# Altium schematic symbol library pi2.SchLib: 27 symbols
Pins are listed as number, name and electrical type; pins without a type are passive.

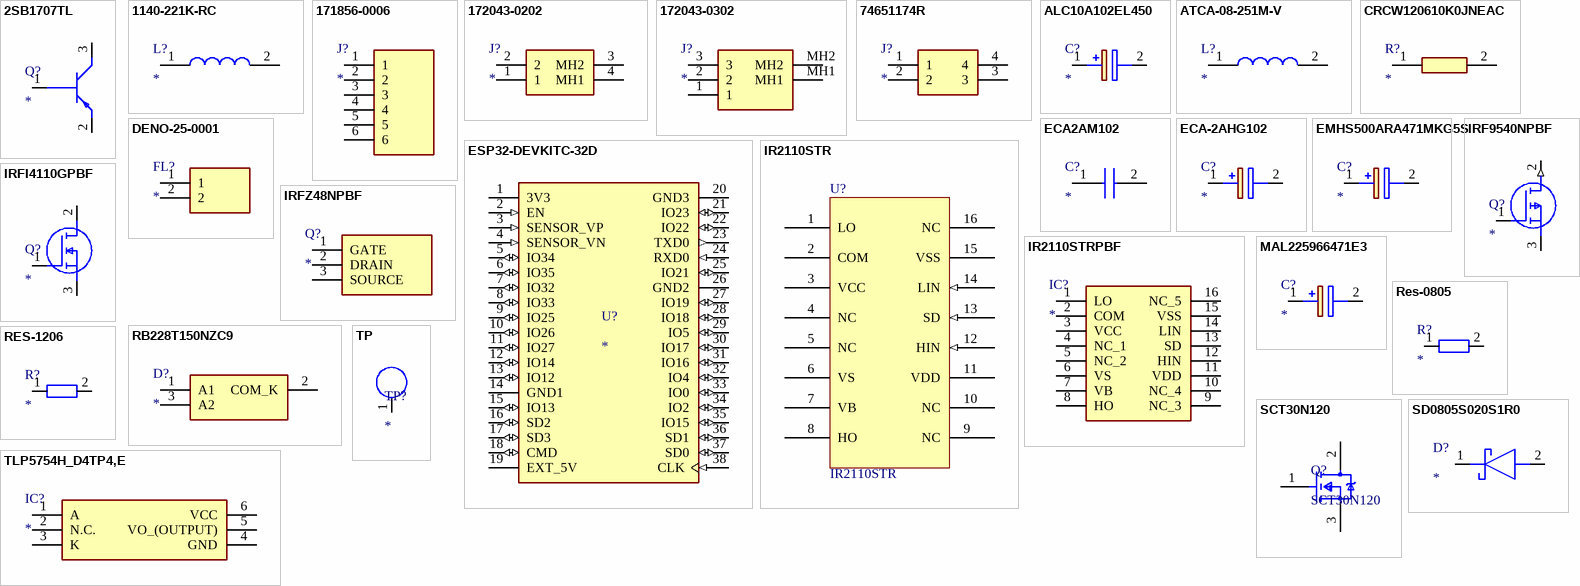
[diagram p0: symbols 2SB1707TL to TP]

## 2SB1707TL
designator Q?
Transistor BJT PNP; Manufacturer_Name: ROHM Semiconductor; Manufacturer_Part_Number: 2SB1707TL; Datasheet Link: https://fscdn.rohm.com/en/products/databook/datasheet/discrete/transistor/bipolar/2sb1707tl-e.pdf; Height: 1mm; Mouser Part Number: 755-2SB1707TL; Mouser Price/Stock: https://www.mouser.com/Search/Refine.aspx?Keyword=755-2SB1707TL
footprint SOT95P280X100-3N
pins: 1 B, 2 E, 3 C

## 1140-221K-RC
designator L?
BOURNS JW MILLER         1140-221K-RC             HIGH CURRENT CHOKE, 220UH 11.4A 10%; Core Material: Ferrite; Current Rating: 7.4A; Shielding: Unshielded; Saturation Current: 14A; DC Resistance (DCR): 50mR; Test Frequency: 1kHz; Lead/Base Style: Radial; Lead Diameter: 0.057inch; Lead Length: 12.7mm; Datasheet Link: https://www.mouser.com/datasheet/2/54/1140_series-776825.pdf; Height: 26.162mm; Manufacturer_Name: Bourns; Manufacturer_Part_Number: 1140-221K-RC; Mouser Part Number: 542-1140-221K-RC; Mouser Price/Stock: https://www.mouser.co.uk/ProductDetail/Bourns/1140-221K-RC?qs=Pac2tMOelJAp1Q7rw4D2Wg%3D%3D; Arrow Part Number: 1140-221K-RC; Arrow Price/Stock: https://www.arrow.com/en/products/1140-221k-rc/bourns; Supplier 1: Mouser; Manufacturer: Bourns JW Miller; Manufacturer Part Number: 1140-221K-RC; RoHS: Yes; Category: Fixed Inductors; Stock 1: 476; Pricing 1: 1=8.31000, 10=7.34000, 50=6.41000, 100=6.21000, 1000=5.66000, 10000=5.66000 (USD); Mount: Through Hole; Case/Package: Radial; Contact Plating: Tin; Min Operating Temperature: -55°C; Max Operating Temperature: 105°C; Packaging: Bulk; Tolerance: 10%; Inductance Tolerance: 10%; Package Quantity: 70; Resistor Type: Wirewound; Inductance: 220uH; Max DC Current: 11.4A; Termination: Radial; DC Current: 11.4A; RMS Current (Irms): 7.4A; Series: 1140; Diameter: 1.5inch; Length: 1.03inch; Lead Pitch: 29.21mm; Height - Seated (Max): 1.03inch; REACH SVHC: No SVHC; Military Standard: Not; Lead Free: Lead Free; ComponentLink1URL: https://datasheet.ciiva.com/13283/1140-series-61680-13283934.pdf?src-supplier=Mouser; ComponentLink1Description: https://datasheet.ciiva.com/13283/1140-series-61680-13283934.pdf?src-supplier=Mouser; ComponentLink2URL: https://datasheet.ciiva.com/5839/1140-series-5839095.pdf?src-supplier=Farnell; ComponentLink2Description: https://datasheet.ciiva.com/5839/1140-series-5839095.pdf?src-supplier=Farnell; ComponentLink3URL: https://datasheet.ciiva.com/6690/1140-series-6690681.pdf?src-supplier=Digi-Key; ComponentLink3Description: https://datasheet.ciiva.com/6690/1140-series-6690681.pdf?src-supplier=Digi-Key; ComponentLink4URL: https://datasheet.ciiva.com/30231/8931140-series-30231343.pdf?src-supplier=Onlinecomponents.com; ComponentLink4Description: https://datasheet.ciiva.com/30231/8931140-series-30231343.pdf?src-supplier=Onlinecomponents.com; ComponentLink5URL: https://datasheet.ciiva.com/1474/1140-series-1474528.pdf?src-supplier=Element14; ComponentLink5Description: https://datasheet.ciiva.com/1474/1140-series-1474528.pdf?src-supplier=Element14; Supplier Part Number 1: 542-1140-221K-RC
footprint 1140221KRC
pins: 1, 2

## 171856-0006
designator J?
Connector; Manufacturer_Name: Molex; Manufacturer_Part_Number: 171856-0006; Datasheet Link: https://www.molex.com/pdm_docs/sd/1718560006_sd.pdf; Height: 11mm; Mouser Part Number: 538-171856-0006; Mouser Price/Stock: https://www.mouser.co.uk/ProductDetail/Molex/171856-0006?qs=s7UCm7gO1bZ%2FF4kPA9T7bA%3D%3D
footprint HDRV6W99P0X254_1X6_1509X635X1100P
pins: 1, 2, 3, 4, 5, 6

## 172043-0202
designator J?
Connector; Manufacturer_Name: Molex; Manufacturer_Part_Number: 172043-0202; Datasheet Link: https://www.molex.com/pdm_docs/sd/1720430202_sd.pdf; Height: 11.68mm; Mouser Part Number: 538-172043-0202; Mouser Price/Stock: https://www.mouser.co.uk/ProductDetail/Molex/172043-0202?qs=AUG1J5sL7zJwcA2Oseq0RA%3D%3D
footprint 1720430202
pins: 1, 2, 3 MH2, 4 MH1

## 172043-0302
designator J?
Connector; Manufacturer_Name: Molex; Manufacturer_Part_Number: 172043-0302; Datasheet Link: https://www.molex.com/pdm_docs/sd/1720430401_sd.pdf; Height: 11.53mm; Mouser Part Number: 538-172043-0302; Mouser Price/Stock: https://www.mouser.co.uk/ProductDetail/Molex/172043-0302?qs=AUG1J5sL7zLcgXmiu7iTvA%3D%3D
footprint 1720430302
pins: 1, 2, 3, MH1, MH2

## 74651174R
designator J?
Connector; Manufacturer_Name: Wurth Elektronik; Manufacturer_Part_Number: 74651174R; Datasheet Link: https://componentsearchengine.com/Datasheets/1/74651174R.pdf; Height: 11mm; Mouser Part Number: 710-74651174R; Mouser Price/Stock: https://www.mouser.co.uk/ProductDetail/Wurth-Elektronik/74651174R?qs=lBTPRtX1sU9uJ5vjuYZPZA%3D%3D
footprint 74651174R
pins: 1, 2, 3, 4

## ALC10A102EL450
designator C?
Capacitor Polarised; Manufacturer_Name: Kemet; Manufacturer_Part_Number: ALC10A102EL450; Datasheet Link: https://content.kemet.com/datasheets/KEM_A4020_ALC10.pdf; Height: 82mm; Mouser Part Number: 80-ALC10A102EL450; Mouser Price/Stock: https://www.mouser.com/Search/Refine.aspx?Keyword=80-ALC10A102EL450; Arrow Part Number: ALC10A102EL450; Arrow Price/Stock: https://www.arrow.com/en/products/alc10a102el450/kemet-corporation
footprint CAPPRD1000W180D4000H8200
pins: 1 +, 2 -

## ATCA-08-251M-V
designator L?
Inductor; Manufacturer_Name: ABRACON; Manufacturer_Part_Number: ATCA-08-251M-V; Datasheet Link: https://componentsearchengine.com/Datasheets/2/ATCA-08-251M-V.pdf; Height: 42.5mm; Mouser Part Number: 815-ATCA-08-251M-V; Mouser Price/Stock: https://www.mouser.co.uk/ProductDetail/ABRACON/ATCA-08-251M-V/?qs=AvgxZrxb8y1V5MUvgxkQSA%3D%3D; Arrow Part Number: ATCA-08-251M-V; Arrow Price/Stock: https://www.arrow.com/en/products/atca-08-251m-v/abracon
footprint ATCA08251MV
pins: 1, 2

## CRCW120610K0JNEAC
designator R?
Resistor; Manufacturer_Name: Vishay; Manufacturer_Part_Number: CRCW120610K0JNEAC; Datasheet Link: http://componentsearchengine.com/Datasheets/1/CRCW120610K0JNEAC.pdf; Height: 0.6mm; Mouser Part Number: 71-CRCW120610K0JNEAC; Mouser Price/Stock: https://www.mouser.co.uk/ProductDetail/Vishay-Dale/CRCW120610K0JNEAC?qs=E3Y5ESvWgWMDF4Y9DPVm9A%3D%3D; Arrow Part Number: CRCW120610K0JNEAC; Arrow Price/Stock: https://www.arrow.com/en/products/crcw120610k0jneac/vishay
footprint RESC3216X60N
pins: 1, 2

## DENO-25-0001
designator FL?
Filter; Manufacturer_Name: SCHURTER; Manufacturer_Part_Number: DENO-25-0001; Datasheet Link: https://www.mouser.com/datasheet/2/358/typ_DENO-1276019.pdf; Height: 25mm; Mouser Part Number: 693-DENO-25-0001; Mouser Price/Stock: https://www.mouser.co.uk/ProductDetail/Schurter/DENO-25-0001?qs=A5k8bsa1loDfpdVSyZOXZg%3D%3D; Arrow Part Number: DENO-25-0001; Arrow Price/Stock: https://www.arrow.com/en/products/deno-25-0001/schurter
footprint DENO250001
pins: 1, 2

## ECA2AM102
designator C?
Capacitor; Manufacturer_Name: Panasonic; Manufacturer_Part_Number: ECA2AM102; Datasheet Link: https://componentsearchengine.com/Datasheets/2/ECA2AM102.pdf; Height: 37.5mm; Arrow Part Number: ECA2AM102; Arrow Price/Stock: https://www.arrow.com/en/products/eca2am102/panasonic
footprint CAPPRD750W85D1825H3750
pins: 1 +, 2 -

## ECA-2AHG102
designator C?
Capacitor Polarised; Manufacturer_Name: Panasonic; Manufacturer_Part_Number: ECA-2AHG102; Datasheet Link: http://www.mouser.com/ds/2/315/ABA0000C1215-1109177.pdf; Height: 37.5mm; Mouser Part Number: 667-ECA-2AHG102; Mouser Price/Stock: https://www.mouser.co.uk/ProductDetail/Panasonic/ECA-2AHG102/?qs=rrcJgg%2Fw9KxYcZZHtVYgiQ%3D%3D; Arrow Part Number: ECA-2AHG102; Arrow Price/Stock: https://www.arrow.com/en/products/eca-2ahg102/panasonic
footprint CAPPRD750W85D1800H3750
pins: 1 +, 2 -

## EMHS500ARA471MKG5S
designator C?
Capacitor Polarised; Manufacturer_Name: United Chemi-Con; Manufacturer_Part_Number: EMHS500ARA471MKG5S; Datasheet Link: http://www.chemi-con.co.jp/cgi-bin/CAT_DB/SEARCH/cat_db_al.cgi?e=e&j=p&pdfname=mhs; Height: 16.5mm; Mouser Part Number: 661-EMHS500ARA471MKG; Mouser Price/Stock: https://www.mouser.co.uk/ProductDetail/United-Chemi-Con/EMHS500ARA471MKG5S?qs=r5DSvlrkXmKdLrHreI%252BOVQ%3D%3D; Arrow Part Number: EMHS500ARA471MKG5S; Arrow Price/Stock: https://www.arrow.com/en/products/emhs500ara471mkg5s/united-chemi-con
footprint CAPAE1300X1650N
pins: 1 +, 2 -

## ESP32-DEVKITC-32D
designator U?
EVAL BOARD FOR ESP-WROOM-32; MP: ESP32-DEVKITC-32D; MF: Espressif Systems; Value: *; Price: None; Check_prices: https://www.snapeda.com/parts/ESP32-DEVKITC-32D/Espressif%20Systems/view-part/2777395/?ref=eda; SnapEDA_Link: https://www.snapeda.com/parts/ESP32-DEVKITC-32D/Espressif%20Systems/view-part/2777395/?ref=snap; Availability: Warning; Purchase-URL: https://pricing.snapeda.com/search/part/ESP32-DEVKITC-32D/?ref=eda; Package: None
footprint MODULE_ESP32-DEVKITC-32D
pins: 1 3V3 (power), 2 EN (in), 3 SENSOR_VP (in), 4 SENSOR_VN (in), 5 IO34 (io), 6 IO35 (io), 7 IO32 (io), 8 IO33 (io), 9 IO25 (io), 10 IO26 (io), 11 IO27 (io), 12 IO14 (io), 13 IO12 (io), 14 GND1 (power), 15 IO13 (io), 16 SD2 (io), 17 SD3 (io), 18 CMD (io), 19 EXT_5V (power), 20 GND3 (power), 21 IO23 (io), 22 IO22 (io), 23 TXD0 (out), 24 RXD0 (in), 25 IO21 (io), 26 GND2 (power), 27 IO19 (io), 28 IO18 (io), 29 IO5 (io), 30 IO17 (io), 31 IO16 (io), 32 IO4 (io), 33 IO0 (io), 34 IO2 (io), 35 IO15 (io), 36 SD1 (io), 37 SD0 (io), 38 CLK (in)

## IR2110STR
designator U?
Driver 500V 2.5A 2-OUT Hi/Lo Side Non-Inv 16-Pin SOIC W T/R; Manufacturer: International Rectifier; Number of Outputs: 2; Max Supply Voltage: 20V; Min Supply Voltage: 10V; Rise Time: 35ns; Propagation Delay: 150ns; Fall Time: 25ns; Power Dissipation: 1.25W; Turn-On Delay Time: 10ns; Operating Supply Voltage: 15V; Supplier 1: Bison Technologies; Manufacturer Part Number: IR2110STR; RoHS: No; Category: Gate Drivers; Stock 1: 485; Mount: Surface Mount; Case/Package: SOIC; Number of Pins: 16; Min Operating Temperature: -40°C; Max Operating Temperature: 125°C; Max Output Current: 2.5A; Number of Drivers: 2; Packaging: Tape and Reel; Package Quantity: 1000; Series: -; Turn-Off Delay Time: 10ns; RoHS Compliant: No; ComponentLink1URL: https://datasheet.ciiva.com/1953/ir2110-1953993.pdf?src-supplier=Digi-Key; ComponentLink1Description: https://datasheet.ciiva.com/1953/ir2110-1953993.pdf?src-supplier=Digi-Key; Supplier Part Number 1: IR2110STR-94544-INTERNATIONAL RECTIFIER (IR)
pins: 1 LO (oc), 2 COM (power), 3 VCC (power), 4 NC (hiz), 5 NC (hiz), 6 VS (power), 7 VB (oc), 8 HO, 9 NC (hiz), 10 NC (hiz), 11 VDD, 12 HIN (in), 13 SD (in), 14 LIN (in), 15 VSS, 16 NC

## IR2110STRPBF
designator IC?
Integrated Circuit; Manufacturer_Name: Infineon; Manufacturer_Part_Number: IR2110STRPBF; Datasheet Link: https://www.infineon.com/dgdl/Infineon-IR2110-DataSheet-v01_00-EN.pdf?fileId=5546d462533600a4015355c80333167e; Height: 2.65mm; Mouser Part Number: 942-IR2110STRPBF; Mouser Price/Stock: https://www.mouser.co.uk/ProductDetail/Infineon-IR/IR2110STRPBF?qs=2r01AXMCG3P4pNuJUqFzxg%3D%3D; Arrow Part Number: IR2110STRPBF; Arrow Price/Stock: https://www.arrow.com/en/products/ir2110strpbf/infineon-technologies-ag
footprint SOIC127P1032X265-16N (Footprint not found)
pins: 1 LO, 2 COM, 3 VCC, 4 NC_1, 5 NC_2, 6 VS, 7 VB, 8 HO, 9 NC_3, 10 NC_4, 11 VDD, 12 HIN, 13 SD, 14 LIN, 15 VSS, 16 NC_5

## IRF9540NPBF
designator Q?
MOSFET (P-Channel); Manufacturer_Name: Infineon; Manufacturer_Part_Number: IRF9540NPBF; Datasheet Link: https://www.infineon.com/dgdl/irf9540npbf.pdf?fileId=5546d462533600a401535611cfa21dc8; Height: 4.69mm; Mouser Part Number: 942-IRF9540NPBF; Mouser Price/Stock: https://www.mouser.co.uk/ProductDetail/Infineon-IR/IRF9540NPBF?qs=9%252BKlkBgLFf0vnuA8mxUPtw%3D%3D; Arrow Part Number: IRF9540NPBF; Arrow Price/Stock: https://www.arrow.com/en/products/irf9540npbf/infineon-technologies-ag
footprint TO254P469X1042X1967-3P
pins: 1 G (power), 2 D (out), 3 S (power)

## IRFI4110GPBF
designator Q?
MOSFET (N-Channel); Manufacturer_Name: Infineon; Manufacturer_Part_Number: IRFI4110GPBF; Datasheet Link: https://www.mouser.co.uk/datasheet/2/196/Infineon-IRFI4110G-DS-v01_02-EN-1227339.pdf; Height: 4.83mm; Mouser Part Number: 942-IRFI4110GPBF; Mouser Price/Stock: https://www.mouser.com/Search/Refine.aspx?Keyword=942-IRFI4110GPBF; Arrow Part Number: IRFI4110GPBF; Arrow Price/Stock: https://www.arrow.com/en/products/irfi4110gpbf/infineon-technologies-ag
footprint TO254P483X1018X2095-3P
pins: 1 G, 2 D, 3 S

## IRFZ48NPBF
designator Q?
Transistor; Manufacturer_Name: Infineon; Manufacturer_Part_Number: IRFZ48NPBF; Description: MOSFET N-Channel 55V 64A TO220AB Infineon IRFZ48NPBF N-channel MOSFET Transistor; Datasheet Link: https://componentsearchengine.com/Datasheets/2/IRFZ48NPBF.pdf; Height: 4.83mm; Mouser Part Number: 942-IRFZ48NPBF; Mouser Price/Stock: https://www.mouser.co.uk/ProductDetail/Infineon-IR/IRFZ48NPBF?qs=9%252BKlkBgLFf0aUlYGH00miQ%3D%3D; Arrow Part Number: IRFZ48NPBF; Arrow Price/Stock: https://www.arrow.com/en/products/irfz48npbf/infineon-technologies-ag
footprint TO254P483X1016X1994-3P
pins: 1 GATE, 2 DRAIN, 3 SOURCE

## MAL225966471E3
designator C?
Capacitor Polarised; Manufacturer_Name: Vishay; Manufacturer_Part_Number: MAL225966471E3; Datasheet Link: https://ms.componentsearchengine.com/Datasheets/2/MAL225966471E3.pdf; Height: 37mm; Mouser Part Number: 594-MAL225966471E3; Mouser Price/Stock: https://www.mouser.co.uk/ProductDetail/Vishay-BC-Components/MAL225966471E3?qs=r5DSvlrkXmJ9zh5giZ1tYQ%3D%3D
footprint CAPPRD1000W210D3500H3700
pins: 1 +, 2 -

## RB228T150NZC9
designator D?
Schottky Diode; Manufacturer_Name: ROHM Semiconductor; Manufacturer_Part_Number: RB228T150NZC9; Datasheet Link: https://fscdn.rohm.com/en/products/databook/datasheet/discrete/diode/schottky_barrier/rb228t150nz-e.pdf; Height: 4.8mm
footprint TO254P480X1010X2100-3P
pins: 1 A1, 2 COM_K, 3 A2

## Res-0805
designator R?
Resistor; Manufacturer_Name: YAGEO (PHYCOMP); Manufacturer_Part_Number: RC0805JR-131KL; Datasheet Link: http://www.yageo.com/documents/recent/PYu-RC_Group_51_RoHS_L_10.pdf; Height: 0.6mm; Mouser Part Number: 603-RC0805JR-131KL; Mouser Price/Stock: https://www.mouser.com/Search/Refine.aspx?Keyword=603-RC0805JR-131KL
footprint RES-0805
pins: 1, 2

## RES-1206
designator R?
footprint RESC3216X60N
pins: 1, 2

## SCT30N120
designator Q?
Trans MOSFET N-CH 1.2KV 45A 3-Pin HIP-247 Tube; Manufacturer: STMicroelectronics; Continuous Drain Current (ID): 40A; Rds On Max: 100mR; Input Capacitance: 1.7nF; Max Power Dissipation: 270W; Gate to Source Voltage (Vgs): 25V; Element Configuration: Single; Number of Channels: 1; Drain to Source Resistance: 80mR; Fall Time: 28ns; Rise Time: 20ns; Turn-Off Delay Time: 45ns; Turn-On Delay Time: 19ns; Threshold Voltage: 2.6V; Power Dissipation: 175W; Supplier 1: Digi-Key; Manufacturer Part Number: SCT30N120; RoHS: Yes; Category: MOSFETs; Stock 1: 580; Pricing 1: 1=21.25000, 10=19.53200, 25=18.72200, 100=16.49560, 500=16.10000 (USD); Mount: Through Hole; Case/Package: TO-247-3; Number of Pins: 247; Weight: 1.340411oz; Min Operating Temperature: -55°C; Max Operating Temperature: 200°C; Drain to Source Voltage (Vdss): 1.2kV; Packaging: Rail/Tube; Drain to Source Breakdown Voltage: 1.2kV; Package Quantity: 30; Number of Elements: 1; Lead Free: Lead Free; REACH SVHC: No SVHC; ComponentLink1URL: https://datasheet.ciiva.com/46422/1856099-46422059.pdf?src-supplier=Element14; ComponentLink1Description: https://datasheet.ciiva.com/46422/1856099-46422059.pdf?src-supplier=Element14; Supplier Part Number 1: 497-14960-ND
footprint TO-247-3
pins: 1 G, 2 D, 3 S

## SD0805S020S1R0
designator D?
Schottky Diode; Manufacturer_Name: AVX; Manufacturer_Part_Number: SD0805S020S1R0; Datasheet Link: https://componentsearchengine.com/Datasheets/1/SD0805S020S1R0.pdf; Height: 1mm; Mouser Part Number: 581-SD0805S020S1R0; Mouser Price/Stock: https://www.mouser.co.uk/ProductDetail/AVX/SD0805S020S1R0/?qs=jCA%252BPfw4LHbpkAoSnwrdjw%3D%3D; Arrow Part Number: SD0805S020S1R0; Arrow Price/Stock: https://www.arrow.com/en/products/sd0805s020s1r0/avx
footprint DIOM1613X100N
pins: 1 K, 2 A

## TLP5754H_D4TP4,E
designator IC?
Integrated Circuit; Manufacturer_Name: Toshiba; Manufacturer_Part_Number: TLP5754H(D4TP4,E; Datasheet Link: https://toshiba.semicon-storage.com/; Height: 2.3mm; Mouser Part Number: 757-TLP5754HD4TP4E; Mouser Price/Stock: https://www.mouser.co.uk/ProductDetail/Toshiba/TLP5754HD4TP4E?qs=BJlw7L4Cy78tX5u9MwNqOg%3D%3D
footprint SOIC127P1105X230-6N
pins: 1 A, 2 N.C., 3 K, 4 GND, 5 VO_(OUTPUT), 6 VCC

## TP
designator TP?
pins: 1